# EAGLE library part CON-HARTING-ML_ML20 (library A20-OLinuXino-Lime2_Rev_C)
HARTING
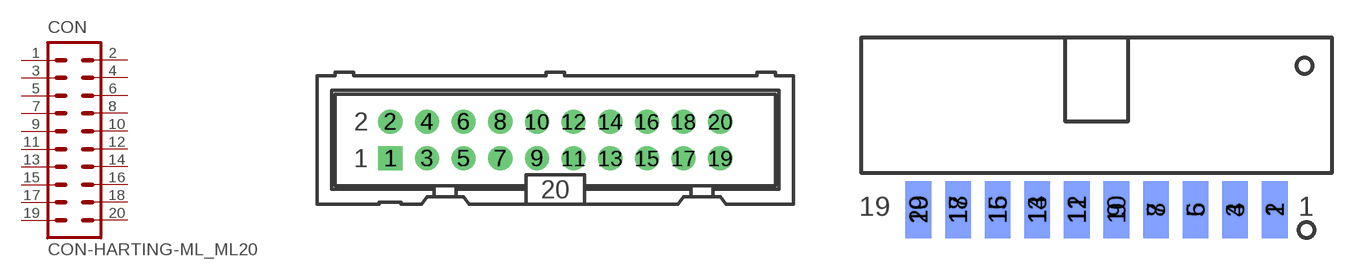
[diagram p14: symbol with the pads of CON-HARTING-ML_ML20-MALE; footprints CON-HARTING-ML_ML20-MALE, CON-HARTING-ML_ML20L_PADS-FEMALE(IDC20S/PCB)]

Designator prefix CON

## CON-HARTING-ML_ML20  [CON-HARTING-ML_ML20-MALE]
1  1  pas
2  2  pas
3  3  pas
4  4  pas
5  5  pas
6  6  pas
7  7  pas
8  8  pas
9  9  pas
10  10  pas
11  11  pas
12  12  pas
13  13  pas
14  14  pas
15  15  pas
16  16  pas
17  17  pas
18  18  pas
19  19  pas
20  20  pas

## CON-HARTING-ML_ML20-IDC20S/PCB  [CON-HARTING-ML_ML20L_PADS-FEMALE(IDC20S/PCB)]
Pads as for CON-HARTING-ML_ML20-MALE

## CON-HARTING-ML_ML203M  [CON-HARTING-ML_3M_20]
Pads as for CON-HARTING-ML_ML20-MALE

## CON-HARTING-ML_ML203ML  [CON-HARTING-ML_3M_20L]
Pads as for CON-HARTING-ML_ML20-MALE

## CON-HARTING-ML_ML20CHANGED  [CON-HARTING-ML_ML20L_PADS_CHANGED]
Pads as for CON-HARTING-ML_ML20-MALE

## CON-HARTING-ML_ML20FEMALE  [CON-HARTING-ML_ML20_50MILS_F]
Pads as for CON-HARTING-ML_ML20-MALE

## CON-HARTING-ML_ML20GPH127SMT-02X10PA-V16X-2X10-LF  [CON-HARTING-ML_GPH127SMT-02X10(PA-V16X-2X10-LF)]
Pads as for CON-HARTING-ML_ML20-MALE

## CON-HARTING-ML_ML20GPH127SMT-02X10-WITH-HOLES  [CON-HARTING-ML_ML20_50MILS_M_WITH-HOLES]
Pads as for CON-HARTING-ML_ML20-MALE

## CON-HARTING-ML_ML20GPH127SMT-02X10-WITH_HOLES  [CON-HARTING-ML_ML20_50MILS_M_WITH_HOLES]
Pads as for CON-HARTING-ML_ML20-MALE

## CON-HARTING-ML_ML20HN2X10  [CON-HARTING-ML_HN2X10-MALE]
Pads as for CON-HARTING-ML_ML20-MALE

## CON-HARTING-ML_ML20IDC20S/PCB  [CON-HARTING-ML_ML20-FEMALE(IDC20S/PCB)]
Pads as for CON-HARTING-ML_ML20-MALE

## CON-HARTING-ML_ML20L  [CON-HARTING-ML_ML20L]
Pads as for CON-HARTING-ML_ML20-MALE

## CON-HARTING-ML_ML20MALE  [CON-HARTING-ML_ML20_50MILS_M]
Pads as for CON-HARTING-ML_ML20-MALE

## CON-HARTING-ML_ML20MD  [CON-HARTING-ML_ML20_S]
Pads as for CON-HARTING-ML_ML20-MALE

## CON-HARTING-ML_ML20ML20-FEMALE  [CON-HARTING-ML_ML20-FEMALE]
Pads as for CON-HARTING-ML_ML20-MALE

## CON-HARTING-ML_ML20ML20-PADS  [CON-HARTING-ML_ML20_PADS]
Pads as for CON-HARTING-ML_ML20-MALE

## CON-HARTING-ML_ML20PA-V16X-2X10-LF_0.60_DRILL  [CON-HARTING-ML_PA-V16X-2X10-LF_0.60_DRILL]
Pads as for CON-HARTING-ML_ML20-MALE

## CON-HARTING-ML_ML20PA-V16X-2X10-LF_0.65_DRILL  [CON-HARTING-ML_PA-V16X-2X10-LF_0.65_DRILL]
Pads as for CON-HARTING-ML_ML20-MALE

## CON-HARTING-ML_ML20PADS  [CON-HARTING-ML_ML20L_PADS]
Pads as for CON-HARTING-ML_ML20-MALE

## CON-HARTING-ML_ML20PN2X10  [CON-HARTING-ML_PN2X10-FEMALE]
Pads as for CON-HARTING-ML_ML20-MALE

## CON-HARTING-ML_ML20R  [CON-HARTING-ML_BH20R]
Pads as for CON-HARTING-ML_ML20-MALE

## CON-HARTING-ML_ML20YA-V36P-2X10-LF  [CON-HARTING-ML_YA-V36P-2X10-LF]
Pads as for CON-HARTING-ML_ML20-MALE

## CON-HARTING-ML_ML20YA-V36P-2X10-LF_0.60_DRILL  [CON-HARTING-ML_YA-V36P-2X10-LF_0.60_DRILL]
Pads as for CON-HARTING-ML_ML20-MALE

## CON-HARTING-ML_ML20YA-V36P-2X10-LF_0.65_DRILL  [CON-HARTING-ML_YA-V36P-2X10-LF_0.65_DRILL]
Pads as for CON-HARTING-ML_ML20-MALE

## Footprint CON-HARTING-ML_ML20-MALE (pad centres in mm)
HARTING
drill 1.016 pad 1.676 square: 1 -11.43,-1.27
drill 1.016 pad 1.676: 2 -11.43,1.27; 3 -8.89,-1.27; 4 -8.89,1.27; 5 -6.35,-1.27; 6 -6.35,1.27; 7 -3.81,-1.27; 8 -3.81,1.27; 9 -1.27,-1.27; 10 -1.27,1.27; 11 1.27,-1.27; 12 1.27,1.27; 13 3.81,-1.27; 14 3.81,1.27; 15 6.35,-1.27; 16 6.35,1.27; 17 8.89,-1.27; 18 8.89,1.27; 19 11.43,-1.27; 20 11.43,1.27

## Footprint CON-HARTING-ML_ML20L_PADS-FEMALE(IDC20S/PCB) (pad centres in mm)
smd 1.651 x 3.683: 1 11.43,-3.404; 3 8.89,-3.404; 5 6.35,-3.404; 7 3.81,-3.404; 9 1.27,-3.404; 11 -1.27,-3.404; 13 -3.81,-3.404; 15 -6.35,-3.404; 17 -8.89,-3.404; 19 -11.43,-3.404
smd 1.651 x 3.683 bottom: 2 11.43,-3.404; 4 8.89,-3.404; 6 6.35,-3.404; 8 3.81,-3.404; 10 1.27,-3.404; 12 -1.27,-3.404; 14 -3.81,-3.404; 16 -6.35,-3.404; 18 -8.89,-3.404; 20 -11.43,-3.404

## Footprint CON-HARTING-ML_3M_20 (pad centres in mm)
3M
drill 0.813 square: 1 -11.43,-1.27; 2 -11.43,1.27; 3 -8.89,-1.27; 4 -8.89,1.27; 5 -6.35,-1.27; 6 -6.35,1.27; 7 -3.81,-1.27; 8 -3.81,1.27; 9 -1.27,-1.27; 10 -1.27,1.27; 11 1.27,-1.27; 12 1.27,1.27; 13 3.81,-1.27; 14 3.81,1.27; 15 6.35,-1.27; 16 6.35,1.27; 17 8.89,-1.27; 18 8.89,1.27; 19 11.43,-1.27; 20 11.43,1.27

## Footprint CON-HARTING-ML_3M_20L (pad centres in mm)
3M
drill 0.813 square: 1 -11.43,-5.08; 2 -11.43,-2.54; 3 -8.89,-5.08; 4 -8.89,-2.54; 5 -6.35,-5.08; 6 -6.35,-2.54; 7 -3.81,-5.08; 8 -3.81,-2.54; 9 -1.27,-5.08; 10 -1.27,-2.54; 11 1.27,-5.08; 12 1.27,-2.54; 13 3.81,-5.08; 14 3.81,-2.54; 15 6.35,-5.08; 16 6.35,-2.54; 17 8.89,-5.08; 18 8.89,-2.54; 19 11.43,-5.08; 20 11.43,-2.54
hole 2.54 at -17.348,-3.277
hole 2.54 at 17.348,-3.277

## Footprint CON-HARTING-ML_ML20L_PADS_CHANGED (pad centres in mm)
smd 1.651 x 3.607: 1 -11.43,-3.404; 3 -8.89,-3.404; 5 -6.35,-3.404; 7 -3.81,-3.404; 9 -1.27,-3.404; 11 1.27,-3.404; 13 3.81,-3.404; 15 6.35,-3.404; 17 8.89,-3.404; 19 11.43,-3.404
smd 1.651 x 3.607 bottom: 2 -11.43,-3.404; 4 -8.89,-3.404; 6 -6.35,-3.404; 8 -3.81,-3.404; 10 -1.27,-3.404; 12 1.27,-3.404; 14 3.81,-3.404; 16 6.35,-3.404; 18 8.89,-3.404; 20 11.43,-3.404

## Footprint CON-HARTING-ML_ML20_50MILS_F (pad centres in mm)
This package is designed from Penko according to FTSHMKT1.pdf Part number is: FTSH-110-01-L-DV FEMALE CONNECTOR! Dimensions: Pitch: 50mil; Pad width: 26mil; Connector length: 500mil; Connector width: 130mil;
smd 0.66 x 2.794: 1 -5.715,2.286; 2 -5.715,-2.286; 3 -4.445,2.286; 4 -4.445,-2.286; 5 -3.175,2.286; 6 -3.175,-2.286; 7 -1.905,2.286; 8 -1.905,-2.286; 9 -0.635,2.286; 10 -0.635,-2.286; 11 0.635,2.286; 12 0.635,-2.286; 13 1.905,2.286; 14 1.905,-2.286; 15 3.175,2.286; 16 3.175,-2.286; 17 4.445,2.286; 18 4.445,-2.286; 19 5.715,2.286; 20 5.715,-2.286

## Footprint CON-HARTING-ML_GPH127SMT-02X10(PA-V16X-2X10-LF) (pad centres in mm)
smd 0.7 x 1.8: 1 -5.715,-2.032; 2 -5.715,2.032; 3 -4.445,-2.032; 4 -4.445,2.032; 5 -3.175,-2.032; 6 -3.175,2.032; 7 -1.905,-2.032; 8 -1.905,2.032; 9 -0.635,-2.032; 10 -0.635,2.032; 11 0.635,-2.032; 12 0.635,2.032; 13 1.905,-2.032; 14 1.905,2.032; 15 3.175,-2.032; 16 3.175,2.032; 17 4.445,-2.032; 18 4.445,2.032; 19 5.715,-2.032; 20 5.715,2.032
hole 0.7 at -5.08,0
hole 0.7 at 5.08,0

## Footprint CON-HARTING-ML_ML20_50MILS_M_WITH-HOLES (pad centres in mm)
smd 0.66 x 2.794: 1 -5.715,-2.286; 2 -5.715,2.286; 3 -4.445,-2.286; 4 -4.445,2.286; 5 -3.175,-2.286; 6 -3.175,2.286; 7 -1.905,-2.286; 8 -1.905,2.286; 9 -0.635,-2.286; 10 -0.635,2.286; 11 0.635,-2.286; 12 0.635,2.286; 13 1.905,-2.286; 14 1.905,2.286; 15 3.175,-2.286; 16 3.175,2.286; 17 4.445,-2.286; 18 4.445,2.286; 19 5.715,-2.286; 20 5.715,2.286
hole 0.7 at -5.08,0
hole 0.7 at 5.08,0

## Footprint CON-HARTING-ML_ML20_50MILS_M_WITH_HOLES (pad centres in mm)
smd 0.66 x 2.794: 1 -5.715,-2.032; 2 -5.715,2.032; 3 -4.445,-2.032; 4 -4.445,2.032; 5 -3.175,-2.032; 6 -3.175,2.032; 7 -1.905,-2.032; 8 -1.905,2.032; 9 -0.635,-2.032; 10 -0.635,2.032; 11 0.635,-2.032; 12 0.635,2.032; 13 1.905,-2.032; 14 1.905,2.032; 15 3.175,-2.032; 16 3.175,2.032; 17 4.445,-2.032; 18 4.445,2.032; 19 5.715,-2.032; 20 5.715,2.032
hole 0.7 at -5.08,0
hole 0.7 at 5.08,0

## Footprint CON-HARTING-ML_HN2X10-MALE (pad centres in mm)
drill 1.016 pad 1.676 square: 1 -11.43,-1.27
drill 1.016 pad 1.676: 2 -11.43,1.27; 3 -8.89,-1.27; 4 -8.89,1.27; 5 -6.35,-1.27; 6 -6.35,1.27; 7 -3.81,-1.27; 8 -3.81,1.27; 9 -1.27,-1.27; 10 -1.27,1.27; 11 1.27,-1.27; 12 1.27,1.27; 13 3.81,-1.27; 14 3.81,1.27; 15 6.35,-1.27; 16 6.35,1.27; 17 8.89,-1.27; 18 8.89,1.27; 19 11.43,-1.27; 20 11.43,1.27

## Footprint CON-HARTING-ML_ML20-FEMALE(IDC20S/PCB) (pad centres in mm)
drill 1.016 pad 1.676 square: 1 -11.43,1.27
drill 1.016 pad 1.676: 2 -11.43,-1.27; 3 -8.89,1.27; 4 -8.89,-1.27; 5 -6.35,1.27; 6 -6.35,-1.27; 7 -3.81,1.27; 8 -3.81,-1.27; 9 -1.27,1.27; 10 -1.27,-1.27; 11 1.27,1.27; 12 1.27,-1.27; 13 3.81,1.27; 14 3.81,-1.27; 15 6.35,1.27; 16 6.35,-1.27; 17 8.89,1.27; 18 8.89,-1.27; 19 11.43,1.27; 20 11.43,-1.27

## Footprint CON-HARTING-ML_ML20L (pad centres in mm)
HARTING
drill 1.016 square: 1 -11.43,-1.27
drill 1.016: 2 -11.43,1.27; 3 -8.89,-1.27; 4 -8.89,1.27; 5 -6.35,-1.27; 6 -6.35,1.27; 7 -3.81,-1.27; 8 -3.81,1.27; 9 -1.27,-1.27; 10 -1.27,1.27; 11 1.27,-1.27; 12 1.27,1.27; 13 3.81,-1.27; 14 3.81,1.27; 15 6.35,-1.27; 16 6.35,1.27; 17 8.89,-1.27; 18 8.89,1.27; 19 11.43,-1.27; 20 11.43,1.27

## Footprint CON-HARTING-ML_ML20_50MILS_M (pad centres in mm)
This package is designed from Penko according to FTSHMKT1.pdf Part number is: FTSH-110-01-L-DV MALE CONNECTOR! Dimensions: Pitch: 50mil; Pad width: 26mil; Connector length: 500mil; Connector width: 130mil;
smd 0.66 x 2.794: 1 -5.715,-2.286; 2 -5.715,2.286; 3 -4.445,-2.286; 4 -4.445,2.286; 5 -3.175,-2.286; 6 -3.175,2.286; 7 -1.905,-2.286; 8 -1.905,2.286; 9 -0.635,-2.286; 10 -0.635,2.286; 11 0.635,-2.286; 12 0.635,2.286; 13 1.905,-2.286; 14 1.905,2.286; 15 3.175,-2.286; 16 3.175,2.286; 17 4.445,-2.286; 18 4.445,2.286; 19 5.715,-2.286; 20 5.715,2.286

## Footprint CON-HARTING-ML_ML20_S (pad centres in mm)
smd 1 x 4.25: 1 -11.43,-3.125; 2 -11.43,3.125; 3 -8.89,-3.125; 4 -8.89,3.125; 5 -6.35,-3.125; 6 -6.35,3.125; 7 -3.81,-3.125; 8 -3.81,3.125; 9 -1.27,-3.125; 10 -1.27,3.125; 11 1.27,-3.125; 12 1.27,3.125; 13 3.81,-3.125; 14 3.81,3.125; 15 6.35,-3.125; 16 6.35,3.125; 17 8.89,-3.125; 18 8.89,3.125; 19 11.43,-3.125; 20 11.43,3.125

## Footprint CON-HARTING-ML_ML20-FEMALE (pad centres in mm)
drill 1.016 pad 1.676 square: 1 -11.43,1.27
drill 1.016 pad 1.676: 2 -11.43,-1.27; 3 -8.89,1.27; 4 -8.89,-1.27; 5 -6.35,1.27; 6 -6.35,-1.27; 7 -3.81,1.27; 8 -3.81,-1.27; 9 -1.27,1.27; 10 -1.27,-1.27; 11 1.27,1.27; 12 1.27,-1.27; 13 3.81,1.27; 14 3.81,-1.27; 15 6.35,1.27; 16 6.35,-1.27; 17 8.89,1.27; 18 8.89,-1.27; 19 11.43,1.27; 20 11.43,-1.27

## Footprint CON-HARTING-ML_ML20_PADS (pad centres in mm)
smd 1.651 x 3.683: 1 -11.443,-0.229; 3 -8.903,-0.229; 5 -6.363,-0.229; 7 -3.823,-0.229; 9 -1.283,-0.229; 11 1.257,-0.229; 13 3.797,-0.229; 15 6.337,-0.229; 17 8.877,-0.229; 19 11.417,-0.229
smd 1.651 x 3.683 bottom: 2 -11.443,-0.229; 4 -8.903,-0.229; 6 -6.363,-0.229; 8 -3.823,-0.229; 10 -1.283,-0.229; 12 1.257,-0.229; 14 3.797,-0.229; 16 6.337,-0.229; 18 8.877,-0.229; 20 11.417,-0.229

## Footprint CON-HARTING-ML_PA-V16X-2X10-LF_0.60_DRILL (pad centres in mm)
Male Drill 0.60 mm
smd 0.7 x 1.8: 1 -5.715,-2.032; 2 -5.715,2.032; 3 -4.445,-2.032; 4 -4.445,2.032; 5 -3.175,-2.032; 6 -3.175,2.032; 7 -1.905,-2.032; 8 -1.905,2.032; 9 -0.635,-2.032; 10 -0.635,2.032; 11 0.635,-2.032; 12 0.635,2.032; 13 1.905,-2.032; 14 1.905,2.032; 15 3.175,-2.032; 16 3.175,2.032; 17 4.445,-2.032; 18 4.445,2.032; 19 5.715,-2.032; 20 5.715,2.032
hole 0.6 at -5.08,0
hole 0.6 at 5.08,0

## Footprint CON-HARTING-ML_PA-V16X-2X10-LF_0.65_DRILL (pad centres in mm)
Male Drill 0.65 mm
smd 0.7 x 1.8: 1 -5.715,-2.032; 2 -5.715,2.032; 3 -4.445,-2.032; 4 -4.445,2.032; 5 -3.175,-2.032; 6 -3.175,2.032; 7 -1.905,-2.032; 8 -1.905,2.032; 9 -0.635,-2.032; 10 -0.635,2.032; 11 0.635,-2.032; 12 0.635,2.032; 13 1.905,-2.032; 14 1.905,2.032; 15 3.175,-2.032; 16 3.175,2.032; 17 4.445,-2.032; 18 4.445,2.032; 19 5.715,-2.032; 20 5.715,2.032
hole 0.65 at -5.08,0
hole 0.65 at 5.08,0

## Footprint CON-HARTING-ML_ML20L_PADS (pad centres in mm)
smd 1.651 x 3.683: 1 -11.43,-3.404; 3 -8.89,-3.404; 5 -6.35,-3.404; 7 -3.81,-3.404; 9 -1.27,-3.404; 11 1.27,-3.404; 13 3.81,-3.404; 15 6.35,-3.404; 17 8.89,-3.404; 19 11.43,-3.404
smd 1.651 x 3.683 bottom: 2 -11.43,-3.404; 4 -8.89,-3.404; 6 -6.35,-3.404; 8 -3.81,-3.404; 10 -1.27,-3.404; 12 1.27,-3.404; 14 3.81,-3.404; 16 6.35,-3.404; 18 8.89,-3.404; 20 11.43,-3.404

## Footprint CON-HARTING-ML_PN2X10-FEMALE (pad centres in mm)
drill 1.016 pad 1.676 square: 1 -11.43,1.27
drill 1.016 pad 1.676: 2 -11.43,-1.27; 3 -8.89,1.27; 4 -8.89,-1.27; 5 -6.35,1.27; 6 -6.35,-1.27; 7 -3.81,1.27; 8 -3.81,-1.27; 9 -1.27,1.27; 10 -1.27,-1.27; 11 1.27,1.27; 12 1.27,-1.27; 13 3.81,1.27; 14 3.81,-1.27; 15 6.35,1.27; 16 6.35,-1.27; 17 8.89,1.27; 18 8.89,-1.27; 19 11.43,1.27; 20 11.43,-1.27

## Footprint CON-HARTING-ML_BH20R (pad centres in mm)
HARTING , but silkscreen with 1mm protrusion, suitable for Olimex BH20R edited by Yassen
drill 1.016 square: 1 -11.43,-1.27
drill 1.016: 2 -11.43,1.27; 3 -8.89,-1.27; 4 -8.89,1.27; 5 -6.35,-1.27; 6 -6.35,1.27; 7 -3.81,-1.27; 8 -3.81,1.27; 9 -1.27,-1.27; 10 -1.27,1.27; 11 1.27,-1.27; 12 1.27,1.27; 13 3.81,-1.27; 14 3.81,1.27; 15 6.35,-1.27; 16 6.35,1.27; 17 8.89,-1.27; 18 8.89,1.27; 19 11.43,-1.27; 20 11.43,1.27

## Footprint CON-HARTING-ML_YA-V36P-2X10-LF (pad centres in mm)
Female Drill 0.70 mm
smd 0.7 x 1.8: 1 -5.715,2.032; 2 -5.715,-2.032; 3 -4.445,2.032; 4 -4.445,-2.032; 5 -3.175,2.032; 6 -3.175,-2.032; 7 -1.905,2.032; 8 -1.905,-2.032; 9 -0.635,2.032; 10 -0.635,-2.032; 11 0.635,2.032; 12 0.635,-2.032; 13 1.905,2.032; 14 1.905,-2.032; 15 3.175,2.032; 16 3.175,-2.032; 17 4.445,2.032; 18 4.445,-2.032; 19 5.715,2.032; 20 5.715,-2.032
hole 0.7 at -5.08,0
hole 0.7 at 5.08,0

## Footprint CON-HARTING-ML_YA-V36P-2X10-LF_0.60_DRILL (pad centres in mm)
Female Drill 0.60 mm
smd 0.7 x 1.8: 1 -5.715,2.032; 2 -5.715,-2.032; 3 -4.445,2.032; 4 -4.445,-2.032; 5 -3.175,2.032; 6 -3.175,-2.032; 7 -1.905,2.032; 8 -1.905,-2.032; 9 -0.635,2.032; 10 -0.635,-2.032; 11 0.635,2.032; 12 0.635,-2.032; 13 1.905,2.032; 14 1.905,-2.032; 15 3.175,2.032; 16 3.175,-2.032; 17 4.445,2.032; 18 4.445,-2.032; 19 5.715,2.032; 20 5.715,-2.032
hole 0.6 at -5.08,0
hole 0.6 at 5.08,0

## Footprint CON-HARTING-ML_YA-V36P-2X10-LF_0.65_DRILL (pad centres in mm)
Female Drill 0.65 mm
smd 0.7 x 1.8: 1 -5.715,2.032; 2 -5.715,-2.032; 3 -4.445,2.032; 4 -4.445,-2.032; 5 -3.175,2.032; 6 -3.175,-2.032; 7 -1.905,2.032; 8 -1.905,-2.032; 9 -0.635,2.032; 10 -0.635,-2.032; 11 0.635,2.032; 12 0.635,-2.032; 13 1.905,2.032; 14 1.905,-2.032; 15 3.175,2.032; 16 3.175,-2.032; 17 4.445,2.032; 18 4.445,-2.032; 19 5.715,2.032; 20 5.715,-2.032
hole 0.65 at -5.08,0
hole 0.65 at 5.08,0